# EAGLE library part MAX4105ESA (library maxim)
OP AMP
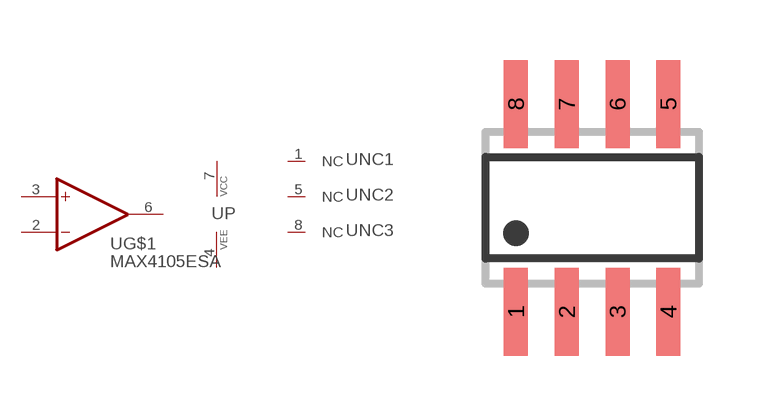
[diagram p354: symbol with the pads of SO08; footprint SO08]

Designator prefix U; gates G$1=OP P=VCC-VEE NC1=NC NC2=NC NC3=NC

## MAX4105ESA  [SO08]
1  NC1:NC  nc
2  G$1:-IN  in
3  G$1:+IN  in
4  P:VEE  pwr
5  NC2:NC  nc
6  G$1:OUT  out
7  P:VCC  pwr
8  NC3:NC  nc

## Footprint SO08 (pad centres in mm)
SMALL OUTLINE INTEGRATED CIRCUIT body 3.9 mm/JEDEC MS-012AA
smd 0.6 x 2.2: 1 -1.905,-2.6; 2 -0.635,-2.6; 3 0.635,-2.6; 4 1.905,-2.6; 5 1.905,2.6; 6 0.635,2.6; 7 -0.635,2.6; 8 -1.905,2.6